# EAGLE library part DIP-SCREW-TERMINAL(8P-2.54) (library Seeed-OPL-Connector)
320110147
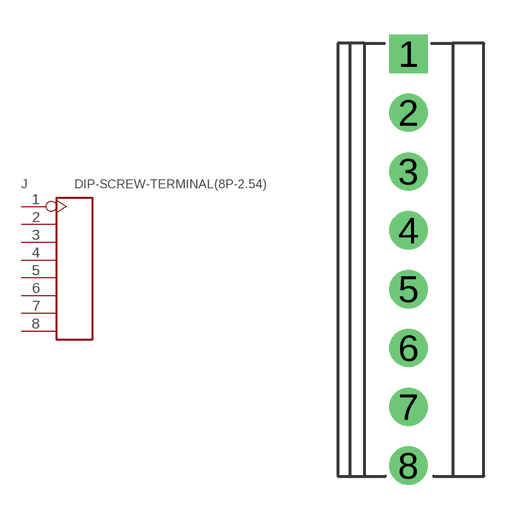
[diagram p149: symbol with the pads of H8-2.54-18.7X6.3MM; footprint H8-2.54-18.7X6.3MM]

Designator prefix J

## DIP-SCREW-TERMINAL(8P-2.54) (MPN: GS019-8P-1; VALUE: 8p-2.54)  [H8-2.54-18.7X6.3MM]
1  1
2  2
3  3
4  4
5  5
6  6
7  7
8  8

## Footprint H8-2.54-18.7X6.3MM (pad centres in mm)
drill 0.889 pad 1.651 square: 1 0,8.89
drill 0.889 pad 1.651: 2 0,6.35; 3 0,3.81; 4 0,1.27; 5 0,-1.27; 6 0,-3.81; 7 0,-6.35; 8 0,-8.89